# Altium integrated library BMM150(1).IntLib: 1 symbol
Pins are listed as number, name and electrical type; pins without a type are passive.

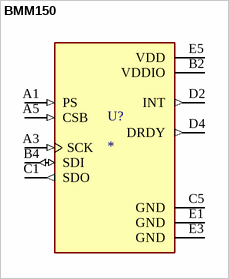
[diagram p0: symbol BMM150]

## BMM150
designator U?
FlipCore, Hall Effect Sensor X, Y, Z Axis 12-WLCSP (1.56x1.56); MF: Bosch Sensortec; MP: BMM150; SnapEDA_Link: https://www.snapeda.com/parts/BMM150/Bosch+Sensortec/view-part/?ref=snap; Purchase-URL: https://pricing.snapeda.com/search/part/BMM150/?ref=eda; Package: WLCSP-12 Bosch; Price: None; Availability: In Stock; Check_prices: https://www.snapeda.com/parts/BMM150/Bosch+Sensortec/view-part/?ref=eda; Value: *
footprint XDCR_BMM150
pins: A1 PS (in), A3 SCK (in), A5 CSB (in), B2 VDDIO (power), B4 SDI (io), C1 SDO (out), C5 GND (power), D2 INT (out), D4 DRDY (out), E1 GND (power), E3 GND (power), E5 VDD (power)